# Altium footprint library LD_EDFA.PcbLib: 280 footprints (part 3 of 18)
Each footprint in its own frame and in the unit in brackets; x right, y up, seen from the top. Pads: shape width x height; smd on the part's side, far side on the other; paste and mask are expansions set on the pad; w line width, h text height; cw(c..) or ccw(c..) is an arc to the next point about the centre after c.
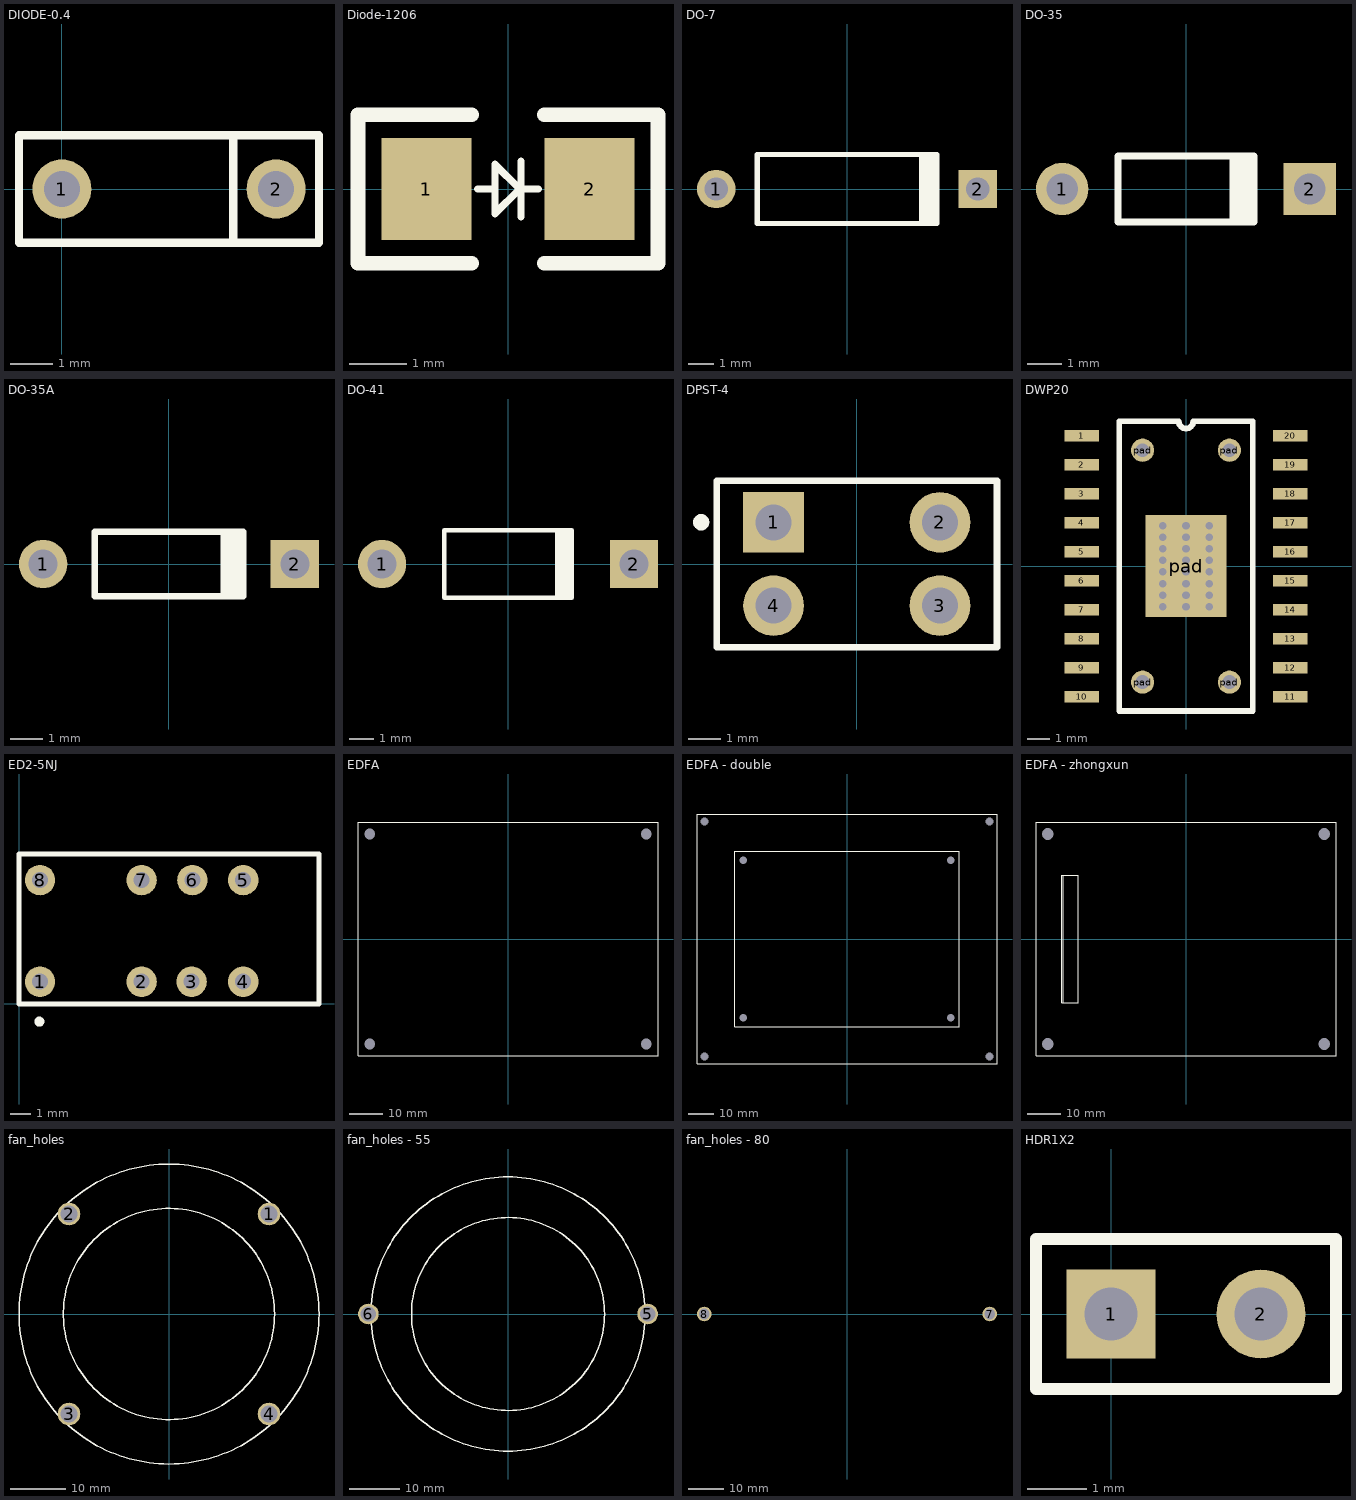
[diagram p2: the footprints below, top view; thin cyan lines are the x and y axes]

## DIODE-0.4 [mm]
height 2.54
pads (2):
  round 1.4 hole 0.85: 1(0,0) 2(5.08,0)
Top Overlay:
  lines w0.2: 4.064,-1.27 4.064,1.27 ; -1.016,-1.27 -1.016,1.27 6.096,1.27 6.096,-1.27 -1.016,-1.27

## Diode-1206 [mil]
pads (2):
  rect 62x70 smd: 1(-56,0) 2(56,0)
Top Overlay:
  lines w5: -21,0 -9,0 ; 9,-19 9,19 ; 9,0 21,0 ; -9,-17 8,0 -9,17 -9,-17
  lines w10: -25,-51 -103,-51 -103,51 -25,51 ; 25,-51 103,-51 103,51 25,51

## DO-7 [mm] "Diode, Axial; Body 7 x 2.7 mm (LxDia. max), Lead Dia. 0.53 mm (max)"
height 2.7
pads (2):
  round 1.5 hole 0.9: 1(-5.1,0)
  rect 1.5x1.5 hole 0.9: 2(5.1,0)
Top Overlay:
  rectangle: 2.8,-1.35 3.6,1.35
  lines w0.2: 3.5,-1.35 -3.5,-1.35 -3.5,1.35 3.5,1.35

## DO-35 [mm] "Diode, Axial; Body 3.8 x 1.9 mm (LxDia. max), Lead Dia. 0.53 mm (max)"
height 1.9
pads (2):
  round 1.5 hole 0.9: 1(-3.55,0)
  rect 1.5x1.5 hole 0.9: 2(3.55,0)
Top Overlay:
  rectangle: 1.25,-0.95 2.05,0.95
  lines w0.2: 1.95,-0.95 -1.95,-0.95 -1.95,0.95 1.95,0.95

## DO-35A [mm] "Diode, Axial; Body 4.6 x 1.9 mm (LxDia. max), Lead Dia. 0.53 mm (max)"
height 2
pads (2):
  round 1.5 hole 0.9: 1(-3.9,0)
  rect 1.5x1.5 hole 0.9: 2(3.9,0)
Top Overlay:
  rectangle: 1.6,-1 2.4,1
  lines w0.2: 2.3,-1 -2.3,-1 -2.3,1 2.3,1

## DO-41 [mm] "Diode, Axial; Body 5.2 x 2.7 mm (LxDia. max), Lead Dia. 0.86 mm (max)"
height 2.8
pads (2):
  round 2 hole 1.2: 1(-5.23,0)
  rect 2x2 hole 1.2: 2(5.23,0)
Top Overlay:
  rectangle: 1.95,-1.4 2.75,1.4
  lines w0.2: 2.65,-1.4 -2.65,-1.4 -2.65,1.4 2.65,1.4

## DPST-4 [mm] "Double-Pole, Single-Throw Switch; 4 Leads"
pads (4):
  rect 1.85x1.85 hole 1.1: 1(-2.54,1.27)
  round 1.85 hole 1.1: 2(2.54,1.27) 3(2.54,-1.27) 4(-2.54,-1.27)
Top Overlay:
  circle w0.25: c-4.751,1.274 r0.125
  lines w0.2: -4.28,-2.54 -4.28,2.54 4.28,2.54 4.28,-2.54 -4.28,-2.54

## DWP20 [mil]
pads (49):
  rect 60x20 smd: 1(-180,225) 2(-180,175) 3(-180,125) 4(-180,75) 5(-180,25) 6(-180,-25) 7(-180,-75) 8(-180,-125) 9(-180,-175) 10(-180,-225) 11(180,-225) 12(180,-175) 13(180,-125) 14(180,-75) 15(180,-25) 16(180,25) 17(180,75) 18(180,125) 19(180,175) 20(180,225)
  round 40 hole 24 paste+0 mask+0: pad(-75,-200) pad(-75,200) pad(75,-200) pad(75,200)
  round 18 hole 13 paste+0 mask+0: pad(-40,-70) pad(-40,-50) pad(-40,-30) pad(-40,-10) pad(-40,10) pad(-40,30) pad(-40,50) pad(-40,70) pad(0,-70) pad(0,-50) pad(0,-30) pad(0,-10) pad(0,10) pad(0,30) pad(0,50) pad(0,70) pad(40,-70) pad(40,-50) pad(40,-30) pad(40,-10) pad(40,10) pad(40,30) pad(40,50) pad(40,70)
  rect 140x176 smd mask+0: pad(0,0)
Top Overlay:
  lines w10: -115,-250 -115,250 -12.5,250 ccw(c0,250) 12.5,250 115,250 115,-250 -115,-250

## ED2-5NJ [mm]
pads (8):
  round 1.524 hole 0.8: 1(1.05,1.11) 2(6.13,1.11) 3(8.63,1.11) 4(11.21,1.11) 5(11.21,6.19) 6(8.67,6.19) 7(6.13,6.19) 8(1.05,6.19)
Top Overlay:
  circle w0.25: c1.018,-0.889 r0.125
  lines w0.254: 0,0 15,0 15,7.5 0,7.5 0,0

## EDFA [mm]
pads (4):
  round 1.27 hole 3.175: 0(-41.5,-31.5) 0(-41.5,31.5) 0(41.5,-31.5) 0(41.5,31.5)
Top Overlay:
  lines w0.254: -45,-35 45,-35 45,35 -45,35 -45,-35

## EDFA - double [mm]
pads (8):
  round 1.27 hole 3.175: 0(-57,-47) 0(-57,47) 0(-41.5,-31.5) 0(-41.5,31.5) 0(41.5,-31.5) 0(41.5,31.5) 0(57,-47) 0(57,47)
Top Overlay:
  lines w0.203: -60,-50 60,-50 60,50 -60,50 -60,-50
  lines w0.254: -45,-35 -45,35 45,35 45,-35 -45,-35

## EDFA - zhongxun [mm]
pads (4):
  round 1.27 hole 3.5: 0(-41.5,-31.5) 0(-41.5,31.5) 0(41.5,-31.5) 0(41.5,31.5)
Top Overlay:
  lines w0.203: -36.83,-19.05 -36.83,19.05 ; -37.338,-19.05 -32.385,-19.05 -32.385,19.05 -37.338,19.05 -37.338,-19.05
  lines w0.254: -45,-35 -45,35 45,35 45,-35 -45,-35

## fan_holes [mil]
pads (4):
  round 160 hole 120: 1(708.66,708.66) 2(-708.66,708.66) 3(-708.66,-708.66) 4(708.66,-708.66)
Top Overlay:
  circle w10: c0,0 r748.03
  circle w10: c0,0 r1062.99

## fan_holes - 55 [mil]
pads (2):
  round 160 hole 120: 5(1082.68,0) 6(-1082.68,0)
Top Overlay:
  circle w10: c0,0 r1062.99
  circle w10: c0,0 r748.03

## fan_holes - 80 [mil]
pads (2):
  round 160 hole 120: 7(1574.8,0) 8(-1574.8,0)

## HDR1X2 [mm] "Connector; Header; 2 Position"
pads (2):
  rect 1.5x1.5 hole 0.9: 1(0,0)
  round 1.5 hole 0.9: 2(2.54,0)
Top Overlay:
  lines w0.2: -1.27,-1.27 -1.27,1.27 3.81,1.27 3.81,-1.27 -1.27,-1.27